# EAGLE library part SIMCOM900 (library WCSMain)
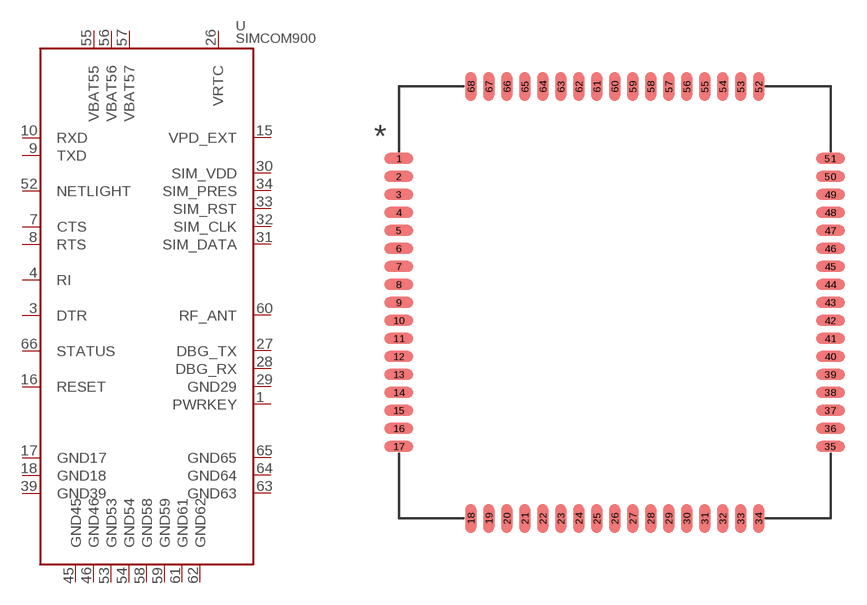
[diagram p13: symbol with the pads of SIMCOM900_68PIN; footprint SIMCOM900_68PIN]

Designator prefix -

## SIMCOM900  [SIMCOM900_68PIN]
1  PWRKEY  pwr
3  DTR  pwr
4  RI  pwr
7  CTS  pwr
8  RTS  pwr
9  TXD  pwr
10  RXD  pwr
15  VPD_EXT  pwr
16  RESET  pwr
17  GND17  pwr
18  GND18  pwr
26  VRTC  pwr
27  DBG_TX  pwr
28  DBG_RX  pwr
29  GND29  pwr
30  SIM_VDD  pwr
31  SIM_DATA  pwr
32  SIM_CLK  pwr
33  SIM_RST  pwr
34  SIM_PRES  pwr
39  GND39  pwr
45  GND45  pwr
46  GND46  pwr
52  NETLIGHT  pwr
53  GND53  pwr
54  GND54  pwr
55  VBAT55  pwr
56  VBAT56  pwr
57  VBAT57  pwr
58  GND58  pwr
59  GND59  pwr
60  RF_ANT  pwr
61  GND61  pwr
62  GND62  pwr
63  GND63  pwr
64  GND64  pwr
65  GND65  pwr
66  STATUS  pwr

## Footprint SIMCOM900_68PIN (pad centres in mm)
smd 1.6 x 0.6: 1 -12,8; 2 -12,7; 3 -12,6; 4 -12,5; 5 -12,4; 6 -12,3; 7 -12,2; 8 -12,1; 9 -12,0; 10 -12,-1; 11 -12,-2; 12 -12,-3; 13 -12,-4; 14 -12,-5; 15 -12,-6; 16 -12,-7; 17 -12,-8; 35 12,-8; 36 12,-7; 37 12,-6; 38 12,-5; 39 12,-4; 40 12,-3; 41 12,-2; 42 12,-1; 43 12,0; 44 12,1; 45 12,2; 46 12,3; 47 12,4; 48 12,5; 49 12,6; 50 12,7; 51 12,8
smd 0.6 x 1.6: 18 -8,-12; 19 -7,-12; 20 -6,-12; 21 -5,-12; 22 -4,-12; 23 -3,-12; 24 -2,-12; 25 -1,-12; 26 0,-12; 27 1,-12; 28 2,-12; 29 3,-12; 30 4,-12; 31 5,-12; 32 6,-12; 33 7,-12; 34 8,-12; 52 8,12; 53 7,12; 54 6,12; 55 5,12; 56 4,12; 57 3,12; 58 2,12; 59 1,12; 60 0,12; 61 -1,12; 62 -2,12; 63 -3,12; 64 -4,12; 65 -5,12; 66 -6,12; 67 -7,12; 68 -8,12